# EAGLE library part U-BLOX_SARA-N2 (library UBLOX_SARA-N2)
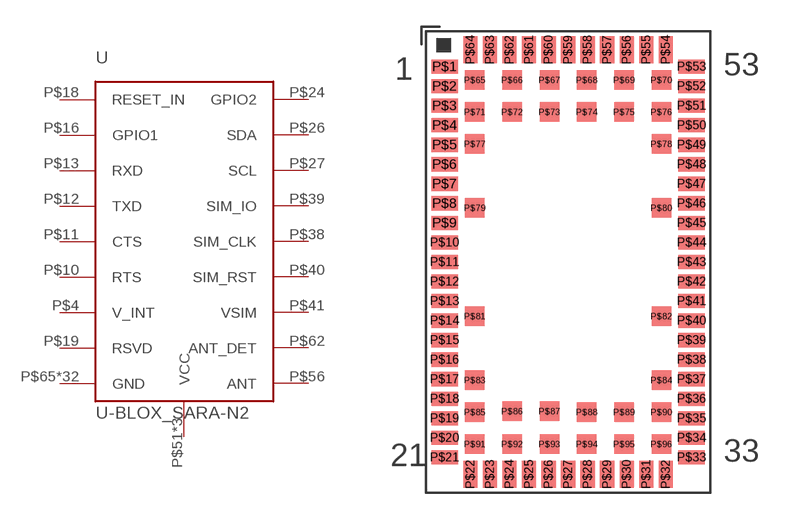
[diagram p0: symbol with the pads of SARA-N2; footprint SARA-N2]

Designator prefix -

## U-BLOX_SARA-N2  [SARA-N2]
P$4  V_INT
P$10  RTS  in
P$11  CTS  out
P$12  TXD  in
P$13  RXD  out
P$16  GPIO1
P$18  RESET_IN  in
P$19  RSVD  nc
P$24  GPIO2
P$26  SDA
P$27  SCL  out
P$38  SIM_CLK  out
P$39  SIM_IO
P$40  SIM_RST  out
P$41  VSIM  out
P$51  VCC  pwr
P$52  VCC  pwr
P$53  VCC  pwr
P$56  ANT
P$62  ANT_DET  in
P$65  GND  pwr
P$66  GND  pwr
P$67  GND  pwr
P$68  GND  pwr
P$69  GND  pwr
P$70  GND  pwr
P$71  GND  pwr
P$72  GND  pwr
P$73  GND  pwr
P$74  GND  pwr
P$75  GND  pwr
P$76  GND  pwr
P$77  GND  pwr
P$78  GND  pwr
P$79  GND  pwr
P$80  GND  pwr
P$81  GND  pwr
P$82  GND  pwr
P$83  GND  pwr
P$84  GND  pwr
P$85  GND  pwr
P$86  GND  pwr
P$87  GND  pwr
P$88  GND  pwr
P$89  GND  pwr
P$90  GND  pwr
P$91  GND  pwr
P$92  GND  pwr
P$93  GND  pwr
P$94  GND  pwr
P$95  GND  pwr
P$96  GND  pwr

## Footprint SARA-N2 (pad centres in mm)
smd 1.5 x 0.8: P$1 -6.95,11; P$2 -6.95,9.9; P$3 -6.95,8.8; P$4 -6.95,7.7; P$5 -6.95,6.6; P$6 -6.95,5.5; P$7 -6.95,4.4; P$8 -6.95,3.3; P$9 -6.95,2.2; P$10 -6.95,1.1; P$11 -6.95,0; P$12 -6.95,-1.1; P$13 -6.95,-2.2; P$14 -6.95,-3.3; P$15 -6.95,-4.4; P$16 -6.95,-5.5; P$17 -6.95,-6.6; P$18 -6.95,-7.7; P$19 -6.95,-8.8; P$20 -6.95,-9.9; P$21 -6.95,-11; P$33 6.95,-11; P$34 6.95,-9.9; P$35 6.95,-8.8; P$36 6.95,-7.7; P$37 6.95,-6.6; P$38 6.95,-5.5; P$39 6.95,-4.4; P$40 6.95,-3.3; P$41 6.95,-2.2; P$42 6.95,-1.1; P$43 6.95,0; P$44 6.95,1.1; P$45 6.95,2.2; P$46 6.95,3.3; P$47 6.95,4.4; P$48 6.95,5.5; P$49 6.95,6.6; P$50 6.95,7.7; P$51 6.95,8.8; P$52 6.95,9.9; P$53 6.95,11
smd 0.8 x 1.5: P$22 -5.5,-11.95; P$23 -4.4,-11.95; P$24 -3.3,-11.95; P$25 -2.2,-11.95; P$26 -1.1,-11.95; P$27 0,-11.95; P$28 1.1,-11.95; P$29 2.2,-11.95; P$30 3.3,-11.95; P$31 4.4,-11.95; P$32 5.5,-11.95; P$54 5.5,11.95; P$55 4.4,11.95; P$56 3.3,11.95; P$57 2.2,11.95; P$58 1.1,11.95; P$59 0,11.95; P$60 -1.1,11.95; P$61 -2.2,11.95; P$62 -3.3,11.95; P$63 -4.4,11.95; P$64 -5.5,11.95
smd 1.1 x 1.1: P$65 -5.25,10.25; P$66 -3.15,10.25; P$67 -1.05,10.25; P$68 1.05,10.25; P$69 3.15,10.25; P$70 5.25,10.25; P$71 -5.25,8.45; P$72 -3.15,8.45; P$73 -1.05,8.45; P$74 1.05,8.45; P$75 3.15,8.45; P$76 5.25,8.45; P$77 -5.25,6.65; P$78 5.25,6.65; P$79 -5.25,3.05; P$80 5.25,3.05; P$81 -5.25,-3.05; P$82 5.25,-3.05; P$83 -5.25,-6.65; P$84 5.25,-6.65; P$85 -5.25,-8.45; P$86 -3.15,-8.4; P$87 -1.05,-8.4; P$88 1.05,-8.45; P$89 3.15,-8.45; P$90 5.25,-8.45; P$91 -5.25,-10.25; P$92 -3.15,-10.25; P$93 -1.05,-10.25; P$94 1.05,-10.25; P$95 3.15,-10.25; P$96 5.25,-10.25